# Altium footprint library DoorNode.PcbLib: 43 footprints (part 1 of 3)
Each footprint in its own frame and in the unit in brackets; x right, y up, seen from the top. Pads: shape width x height; smd on the part's side, far side on the other; paste and mask are expansions set on the pad; w line width, h text height; cw(c..) or ccw(c..) is an arc to the next point about the centre after c.
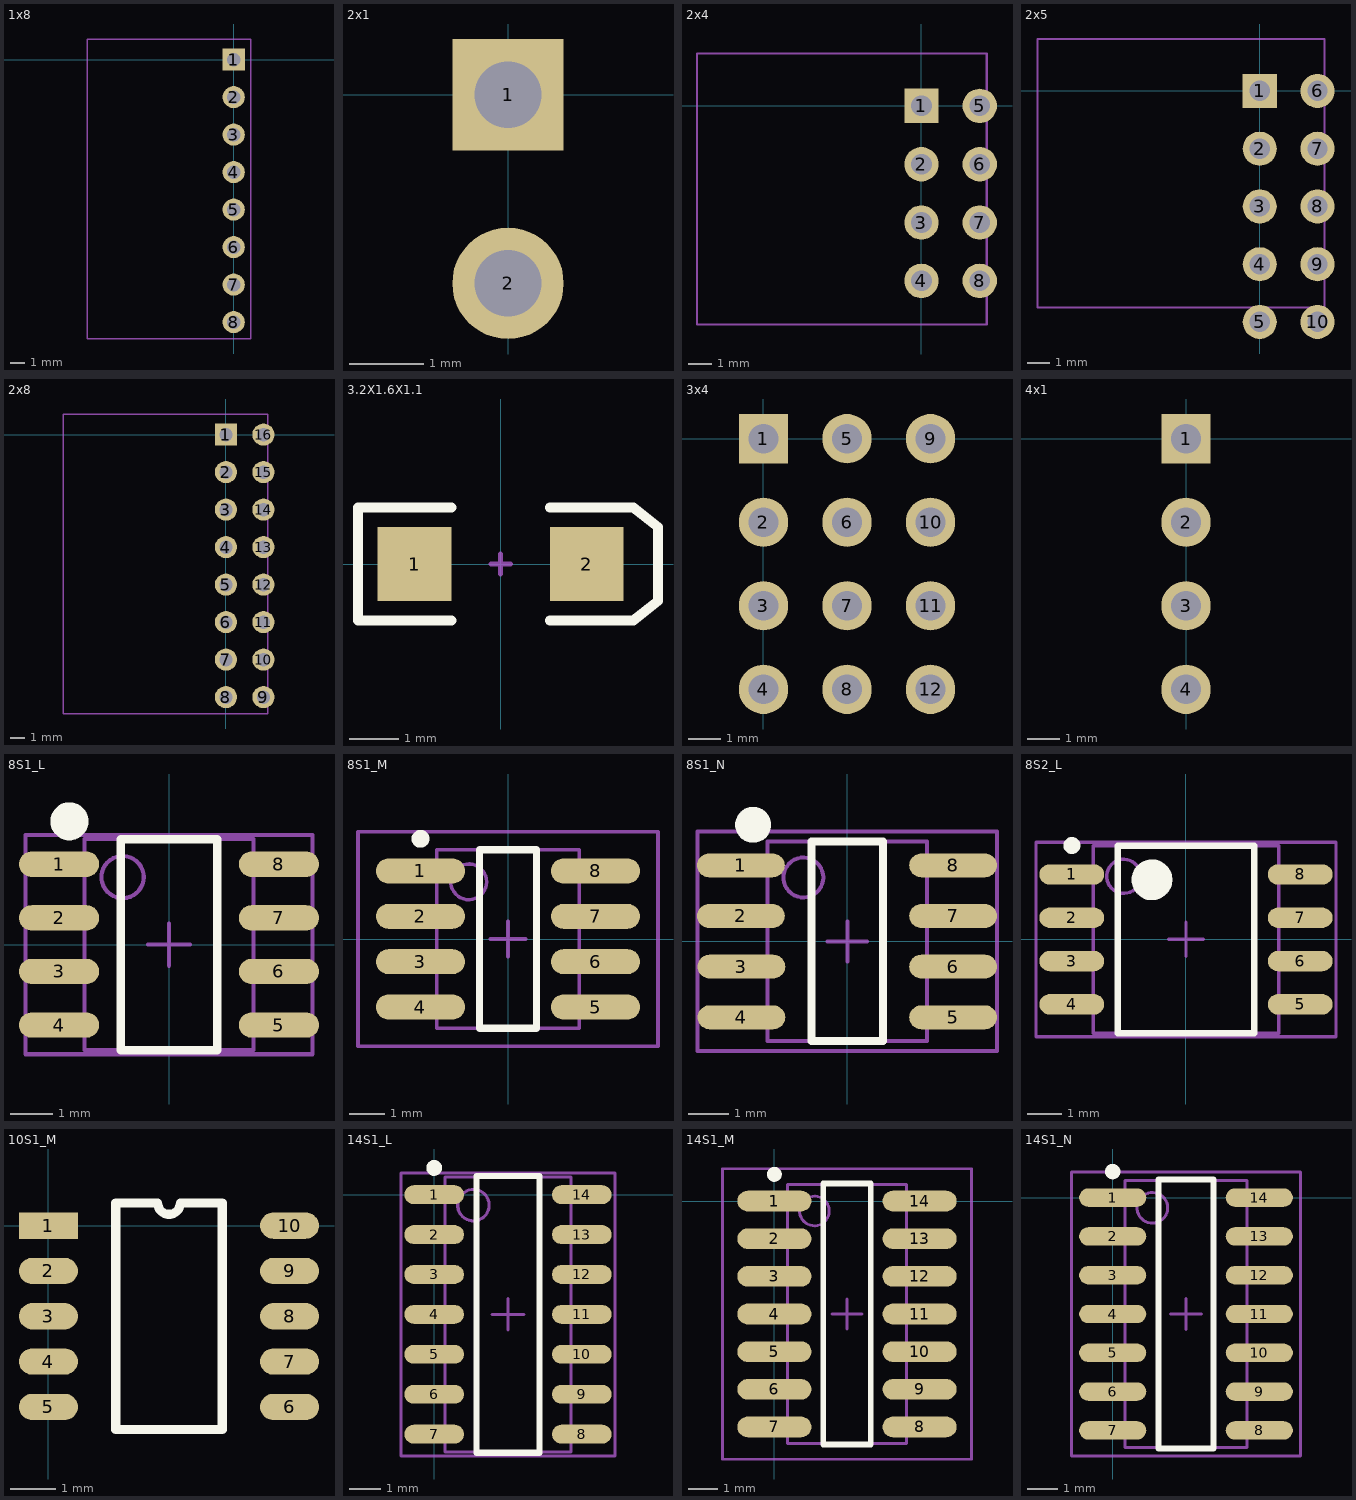
[diagram p0: the footprints below, top view; thin cyan lines are the x and y axes]

## 1x8 [mm]
pads (8):
  rect 1.5x1.5 hole 0.9: 1(0,0)
  round 1.5 hole 0.9: 2(0,-2.54) 3(0,-5.08) 4(0,-7.62) 5(0,-10.16) 6(0,-12.7) 7(0,-15.24) 8(0,-17.78)
Mechanical 1:
  lines w0.1: -9.906,-18.923 1.143,-18.923 1.143,1.397 -9.906,1.397 -9.906,-18.923
3D body "7731511808lf.stp": height 2.61, standoff -2.86, extent -9.705,-18.85 0.381,1.07

## 2x1 [mm]
pads (2):
  rect 1.5x1.5 hole 0.9: 1(0,0)
  round 1.5 hole 0.9: 2(0,-2.54)

## 2x4 [mm]
pads (8):
  rect 1.5x1.5 hole 0.9: 1(0,0)
  round 1.5 hole 0.9: 2(0,-2.54) 3(0,-5.08) 4(0,-7.62) 5(2.54,0) 6(2.54,-2.54) 7(2.54,-5.08) 8(2.54,-7.62)
Mechanical 1:
  lines w0.1: -9.779,-9.525 -9.779,2.286 2.845,2.286 2.845,-9.525 -9.779,-9.525
3D body "7731710308lf.stp": height 5.79, standoff -1.45, extent -9.744,-8.509 2.886,1.251

## 2x5 [mm]
pads (10):
  rect 1.5x1.5 hole 0.9: 1(0,0)
  round 1.5 hole 0.9: 2(0,-2.54) 3(0,-5.08) 4(0,-7.62) 5(0,-10.16) 6(2.54,0) 7(2.54,-2.54) 8(2.54,-5.08) 9(2.54,-7.62) 10(2.54,-10.16)
Mechanical 1:
  lines w0.1: -9.779,-9.525 -9.779,2.286 2.845,2.286 2.845,-9.525 -9.779,-9.525
3D body "7731710308lf.stp": height 5.79, standoff -1.45, extent -9.744,-8.509 2.886,1.251

## 2x8 [mm]
pads (16):
  rect 1.5x1.5 hole 0.9: 1(0,0)
  round 1.5 hole 0.9: 2(0,-2.54) 3(0,-5.08) 4(0,-7.62) 5(0,-10.16) 6(0,-12.7) 7(0,-15.24) 8(0,-17.78) 9(2.54,-17.78) 10(2.54,-15.24) 11(2.54,-12.7) 12(2.54,-10.16) 13(2.54,-7.62) 14(2.54,-5.08) 15(2.54,-2.54) 16(2.54,0)
Mechanical 1:
  lines w0.1: -11.004,-18.923 2.845,-18.923 2.845,1.397 -11.004,1.397 -11.004,-18.923
3D body "6252.stp": height 6.07, standoff -2.98, extent -11.004,-18.923 2.845,1.397

## 3.2X1.6X1.1 [mm] "SMT LED; 2 Flat Leads"
height 1.2
pads (2):
  rect 1.5x1.5 smd: 1(-1.75,0) 2(1.75,0)
Top Overlay:
  lines w0.2: -1,-1.15 -2.9,-1.15 -2.9,1.15 -1,1.15 ; 1,-1.15 2.7,-1.15 3.2,-0.75 3.2,0.75 2.7,1.15 1,1.15
Mechanical 1:
  lines w0.1: -0.2,0 0.2,0 ; 0,-0.2 0,0.2

## 3x4 [mm]
pads (12):
  rect 1.5x1.5 hole 0.9: 1(0,0)
  round 1.5 hole 0.9: 2(0,-2.54) 3(0,-5.08) 4(0,-7.62) 5(2.54,0) 6(2.54,-2.54) 7(2.54,-5.08) 8(2.54,-7.62) 9(5.08,0) 10(5.08,-2.54) 11(5.08,-5.08) 12(5.08,-7.62)
3D body "User Library-3X1header2_54MM.STEP": height 7.81, standoff -2.43, extent -10.077,-1.204 5.383,1.336
3D body "User Library-3X1header2_54MM.STEP": height 7.81, standoff -2.43, extent -10.077,-3.744 5.383,-1.204
3D body "User Library-3X1header2_54MM.STEP": height 7.81, standoff -2.43, extent -10.077,-6.284 5.383,-3.744
3D body "User Library-3X1header2_54MM.STEP": height 7.81, standoff -2.43, extent -10.077,-8.824 5.383,-6.284

## 4x1 [mm]
pads (4):
  rect 1.5x1.5 hole 0.9: 1(0,0)
  round 1.5 hole 0.9: 2(0,-2.54) 3(0,-5.08) 4(0,-7.62)

## 8S1_L [mm] "SOIC, 8-Leads, Body 4.9x3.9mm, Pitch 1.27mm, IPC High Density"
height 1.75
pads (8):
  oval 1.9x0.6 smd: 1(-2.604,1.905) 2(-2.604,0.635) 3(-2.604,-0.635) 4(-2.604,-1.905) 5(2.604,-1.905) 6(2.604,-0.635) 7(2.604,0.635) 8(2.604,1.905)
Top Overlay:
  circle w0.5: c-2.359,2.921 r0.2
  lines w0.2: -1.143,-2.5 -1.143,2.5 1.143,2.5 1.143,-2.5 -1.143,-2.5
Mechanical 13:
  circle w0.1: c-1.1,1.6 r0.5
  lines w0.1: -2,-2.5 2,-2.5 2,2.5 -2,2.5 -2,-2.5
Mechanical 15:
  lines w0.1: -0.5,0 0.5,0 ; 0,-0.5 0,0.5 ; -3.4,-2.6 3.4,-2.6 3.4,2.6 -3.4,2.6 -3.4,-2.6
3D body: height 1.75, standoff 0, extent -2,-2.5 2,2.5

## 8S1_M [mm] "SOIC, 8-Leads, Body 4.9x3.9mm, Pitch 1.27mm, IPC Low Density"
height 1.75
pads (8):
  oval 2.5x0.7 smd: 1(-2.45,1.905) 2(-2.45,0.635) 3(-2.45,-0.635) 4(-2.45,-1.905) 5(2.45,-1.905) 6(2.45,-0.635) 7(2.45,0.635) 8(2.45,1.905)
Top Overlay:
  circle w0.25: c-2.45,2.805 r0.125
  lines w0.2: -0.8,-2.5 -0.8,2.5 0.8,2.5 0.8,-2.5 -0.8,-2.5
Mechanical 13:
  circle w0.1: c-1.1,1.6 r0.5
  lines w0.1: -2,-2.5 -2,2.5 2,2.5 2,-2.5 -2,-2.5
Mechanical 15:
  lines w0.1: -0.5,0 0.5,0 ; 0,-0.5 0,0.5 ; -4.2,-3 -4.2,3 4.2,3 4.2,-3 -4.2,-3
3D body: height 1.75, standoff 0, extent -2,-2.5 2,2.5

## 8S1_N [mm] "SOIC, 8-Leads, Body 4.9x3.9mm, Pitch 1.27mm, IPC Medium Density"
height 1.75
pads (8):
  oval 2.2x0.6 smd: 1(-2.667,1.905) 2(-2.667,0.635) 3(-2.654,-0.635) 4(-2.654,-1.905) 5(2.654,-1.905) 6(2.654,-0.635) 7(2.654,0.635) 8(2.654,1.905)
Top Overlay:
  circle w0.5: c-2.359,2.921 r0.2
  lines w0.2: -0.9,-2.5 0.9,-2.5 0.9,2.5 -0.9,2.5 -0.9,-2.5
Mechanical 13:
  circle w0.1: c-1.1,1.6 r0.5
  lines w0.1: -2,-2.5 2,-2.5 2,2.5 -2,2.5 -2,-2.5
Mechanical 15:
  lines w0.1: -0.5,0 0.5,0 ; 0,-0.5 0,0.5 ; -3.75,-2.75 3.75,-2.75 3.75,2.75 -3.75,2.75 -3.75,-2.75
3D body: height 1.75, standoff 0, extent -2,-2.5 2,2.5

## 8S2_L [mm] "SOP, 8-Leads, Body 5.3x5.3mm, Pitch 1.27mm, IPC High Density"
height 2.16
pads (8):
  oval 1.9x0.6 smd: 1(-3.35,1.905) 2(-3.35,0.635) 3(-3.35,-0.635) 4(-3.35,-1.905) 5(3.35,-1.905) 6(3.35,-0.635) 7(3.35,0.635) 8(3.35,1.905)
Top Overlay:
  circle w0.25: c-3.35,2.755 r0.125
  circle w0.6: c-1,1.75 r0.3
  lines w0.2: -2,-2.75 -2,2.75 2,2.75 2,-2.75 -2,-2.75
Mechanical 13:
  circle w0.1: c-1.825,1.85 r0.5
  lines w0.1: -2.725,-2.75 -2.725,2.75 2.725,2.75 2.725,-2.75 -2.725,-2.75
Mechanical 15:
  lines w0.1: -0.5,0 0.5,0 ; 0,-0.5 0,0.5 ; -4.4,-2.85 -4.4,2.85 4.4,2.85 4.4,-2.85 -4.4,-2.85
3D body: height 2.16, standoff 0, extent -2.725,-2.75 2.725,2.75

## 10S1_M [mm]
pads (10):
  rect 1.3x0.58 smd: 1(0,0)
  oval 1.3x0.58 smd: 2(0,-1) 3(0,-2) 4(0,-3) 5(0,-4) 6(5.32,-4) 7(5.32,-3) 8(5.32,-2) 9(5.32,-1) 10(5.32,0)
Top Overlay:
  lines w0.2: 1.485,-4.5 3.835,-4.5 3.835,0.5 2.91,0.5 cw(c2.66,0.5) 2.41,0.5 1.485,0.5 1.485,-4.5
3D body: height 1.75, standoff 0, extent 0,-4.572 5.334,0.762

## 14S1_L [mm] "SOIC, 14-Leads, Body 8.7x3.9mm, Pitch 1.27mm, IPC High Density"
height 1.75
pads (14):
  oval 1.9x0.6 smd: 1(0,0) 2(0,-1.27) 3(0,-2.54) 4(0,-3.81) 5(0,-5.08) 6(0,-6.35) 7(0,-7.62) 8(4.7,-7.62) 9(4.7,-6.35) 10(4.7,-5.08) 11(4.7,-3.81) 12(4.7,-2.54) 13(4.7,-1.27) 14(4.7,0)
Top Overlay:
  circle w0.25: c0,0.85 r0.125
  lines w0.2: 1.35,-8.21 1.35,0.59 3.35,0.59 3.35,-8.21 1.35,-8.21
Mechanical 13:
  circle w0.1: c1.25,-0.335 r0.5
  lines w0.1: 0.35,-8.185 0.35,0.565 4.35,0.565 4.35,-8.185 0.35,-8.185
Mechanical 15:
  lines w0.1: 1.85,-3.81 2.85,-3.81 ; 2.35,-4.31 2.35,-3.31 ; -1.05,-8.31 -1.05,0.69 5.75,0.69 5.75,-8.31 -1.05,-8.31
3D body: height 1.75, standoff 0, extent 0.35,-8.185 4.35,0.565

## 14S1_M [mm] "SOIC, 14-Leads, Body 8.7x3.9mm, Pitch 1.27mm, IPC Low Density"
height 1.75
pads (14):
  oval 2.5x0.7 smd: 1(0,0) 2(0,-1.27) 3(0,-2.54) 4(0,-3.81) 5(0,-5.08) 6(0,-6.35) 7(0,-7.62) 8(4.9,-7.62) 9(4.9,-6.35) 10(4.9,-5.08) 11(4.9,-3.81) 12(4.9,-2.54) 13(4.9,-1.27) 14(4.9,0)
Top Overlay:
  circle w0.25: c0,0.9 r0.125
  lines w0.2: 1.65,-8.21 1.65,0.59 3.25,0.59 3.25,-8.21 1.65,-8.21
Mechanical 13:
  circle w0.1: c1.35,-0.335 r0.5
  lines w0.1: 0.45,-8.185 0.45,0.565 4.45,0.565 4.45,-8.185 0.45,-8.185
Mechanical 15:
  lines w0.1: 1.95,-3.81 2.95,-3.81 ; 2.45,-4.31 2.45,-3.31 ; -1.75,-8.71 -1.75,1.09 6.65,1.09 6.65,-8.71 -1.75,-8.71
3D body: height 1.75, standoff 0, extent 0.45,-8.185 4.45,0.565

## 14S1_N [mm] "SOIC, 14-Leads, Body 8.7x3.9mm, Pitch 1.27mm, IPC Medium Density"
height 1.75
pads (14):
  oval 2.2x0.6 smd: 1(0,0) 2(0,-1.27) 3(0,-2.54) 4(0,-3.81) 5(0,-5.08) 6(0,-6.35) 7(0,-7.62) 8(4.8,-7.62) 9(4.8,-6.35) 10(4.8,-5.08) 11(4.8,-3.81) 12(4.8,-2.54) 13(4.8,-1.27) 14(4.8,0)
Top Overlay:
  circle w0.25: c0,0.85 r0.125
  lines w0.2: 1.5,-8.21 3.3,-8.21 3.3,0.59 1.5,0.59 1.5,-8.21
Mechanical 13:
  circle w0.1: c1.3,-0.335 r0.5
  lines w0.1: 0.4,-8.185 4.4,-8.185 4.4,0.565 0.4,0.565 0.4,-8.185
Mechanical 15:
  lines w0.1: 1.9,-3.81 2.9,-3.81 ; 2.4,-4.31 2.4,-3.31 ; -1.35,-8.46 6.15,-8.46 6.15,0.84 -1.35,0.84 -1.35,-8.46
3D body: height 1.75, standoff 0, extent 0.4,-8.185 4.4,0.565